# EAGLE library part MAX2771ETI+ (library MAX2771ETI_)
None
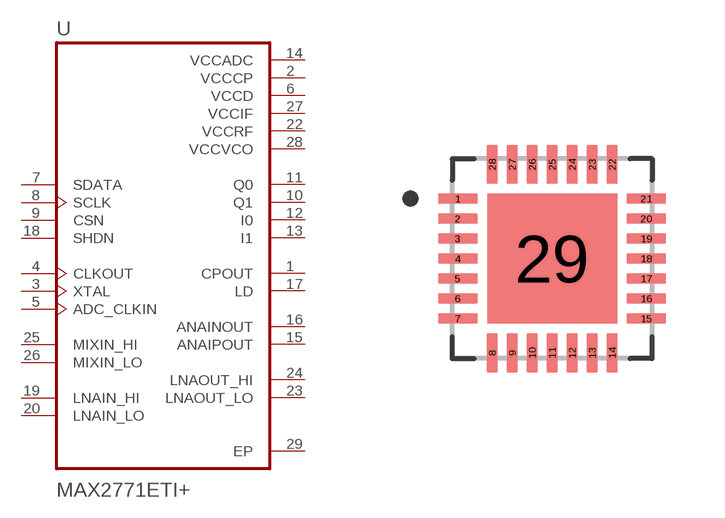
[diagram p0: symbol with the pads of QFN50P500X500X80-29N; footprint QFN50P500X500X80-29N]

Designator prefix U

## MAX2771ETI+ (Availability: Unavailable; Description: NEXT-GENERATION GLOBAL NAVIGATIO; MF: Maxim Integrated; MP: MAX2771ETI+; Package: TQFN-28 Maxim; Price: None)  [QFN50P500X500X80-29N]
1  CPOUT  out
2  VCCCP  pwr
3  XTAL  in
4  CLKOUT  out
5  ADC_CLKIN  in
6  VCCD  pwr
7  SDATA
8  SCLK  in
9  CSN  in
10  Q1  out
11  Q0  out
12  I0  out
13  I1  out
14  VCCADC  pwr
15  ANAIPOUT  out
16  ANAINOUT  out
17  LD  out
18  SHDN  in
19  LNAIN_HI  in
20  LNAIN_LO  in
22  VCCRF  pwr
23  LNAOUT_LO  out
24  LNAOUT_HI  out
25  MIXIN_HI  in
26  MIXIN_LO  in
27  VCCIF  pwr
28  VCCVCO  pwr
29  EP  pwr

## Footprint QFN50P500X500X80-29N (pad centres in mm)
smd 0.99 x 0.27: 1 -2.36,1.5; 2 -2.36,1; 3 -2.36,0.5; 4 -2.36,0; 5 -2.36,-0.5; 6 -2.36,-1; 7 -2.36,-1.5; 15 2.36,-1.5; 16 2.36,-1; 17 2.36,-0.5; 18 2.36,0; 19 2.36,0.5; 20 2.36,1; 21 2.36,1.5
smd 0.27 x 0.99: 8 -1.5,-2.36; 9 -1,-2.36; 10 -0.5,-2.36; 11 0,-2.36; 12 0.5,-2.36; 13 1,-2.36; 14 1.5,-2.36; 22 1.5,2.36; 23 1,2.36; 24 0.5,2.36; 25 0,2.36; 26 -0.5,2.36; 27 -1,2.36; 28 -1.5,2.36
smd 3.25 x 3.25: 29 0,0